# Altium footprint library ESDALC6V15M6_new.PcbLib: 1 footprints
Each footprint in its own frame and in the unit in brackets; x right, y up, seen from the top. Pads: shape width x height; smd on the part's side, far side on the other; paste and mask are expansions set on the pad; w line width, h text height; cw(c..) or ccw(c..) is an arc to the next point about the centre after c.
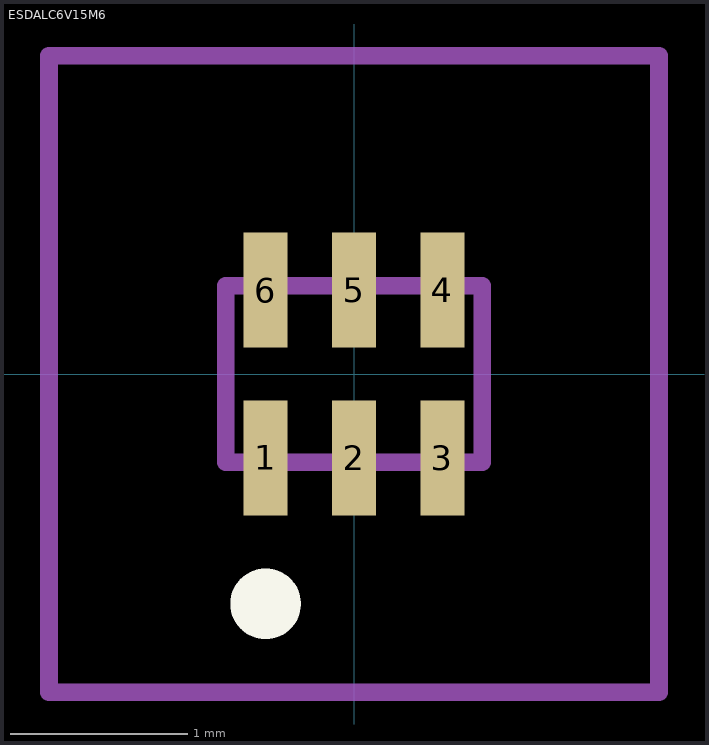
[diagram p0: the footprint, top view; thin cyan lines are the x and y axes]

## ESDALC6V15M6 [mm]
pads (6):
  rect 0.25x0.65 smd: 1(-0.5,-0.475) 2(0,-0.475) 3(0.5,-0.475) 4(0.5,0.475) 5(0,0.475) 6(-0.5,0.475)
Top Overlay:
  lines w0.2: -0.6,-1.3 cw(c-0.5,-1.3) -0.4,-1.3 cw(c-0.5,-1.3) -0.6,-1.3
Mechanical 15:
  lines w0.1: -0.725,-0.5 -0.725,0.5 0.725,0.5 0.725,-0.5 -0.725,-0.5
Mechanical 20:
  lines w0.1: -1.725,-1.8 -1.725,1.8 1.725,1.8 1.725,-1.8 -1.725,-1.8
3D body "ESDALC6V1-5M6.stp": height 0.65, standoff 0, extent -0.725,-0.55 0.725,0.55